# Altium schematic symbol library DAC7731Schlib.SchLib: 1 symbol
Pins are listed as number, name and electrical type; pins without a type are passive.

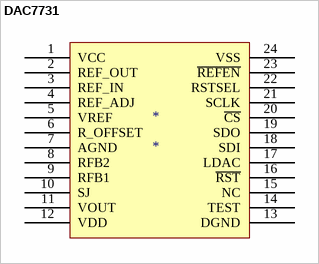
[diagram p0: symbol DAC7731]

## DAC7731
designator *
footprint TSSOP24
pins: 1 VCC, 2 REF_OUT, 3 REF_IN, 4 REF_ADJ, 5 VREF, 6 R_OFFSET, 7 AGND, 8 RFB2, 9 RFB1, 10 SJ, 11 VOUT, 12 VDD, 13 DGND, 14 TEST, 15 NC, 16 ~{RST}, 17 LDAC, 18 SDI, 19 SDO, 20 ~{CS}, 21 SCLK, 22 RSTSEL, 23 ~{REFEN}, 24 VSS